# Altium footprint library XTAL_Abracaon_AST3TQ-T-25.000MHz-28.PcbLib: 1 footprints
Each footprint in its own frame and in the unit in brackets; x right, y up, seen from the top. Pads: shape width x height; smd on the part's side, far side on the other; paste and mask are expansions set on the pad; w line width, h text height; cw(c..) or ccw(c..) is an arc to the next point about the centre after c.
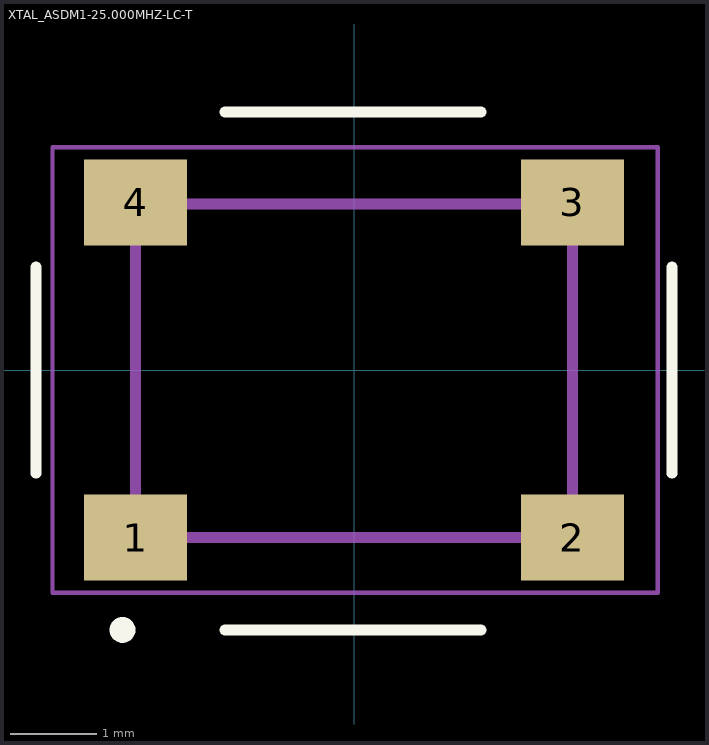
[diagram p0: the footprint, top view; thin cyan lines are the x and y axes]

## XTAL_ASDM1-25.000MHZ-LC-T [mm]
pads (4):
  rect 1.2x1 smd: 1(-2.54,-1.95) 2(2.54,-1.95) 3(2.54,1.95) 4(-2.54,1.95)
Top Overlay:
  circle w0.16: c-2.692,-3.023 r0.07
  lines w0.127: -3.7,-1.2 -3.7,1.2 ; -1.5,-3.023 1.477,-3.023 ; -1.5,3 1.477,3 ; 3.7,-1.2 3.7,1.2
Mechanical 13:
  circle w0.127: c-2.54,-1.95 r0.2
  circle w0.127: c-2.54,-1.95 r0.2
  lines w0.127: -2.54,-1.95 -2.54,1.93 2.54,1.93 2.54,-1.95 -2.54,-1.95
Mechanical 15:
  lines w0.05: -3.505,-2.591 3.531,-2.591 3.531,2.591 -3.505,2.591 -3.505,-2.591
3D body: height 2, standoff 0.13, extent -3.3,-2.6 3.3,2.6